# EAGLE library part HOLYIOT_18010 (library HOLYIOT-18010-VER1.0-0.8MM)
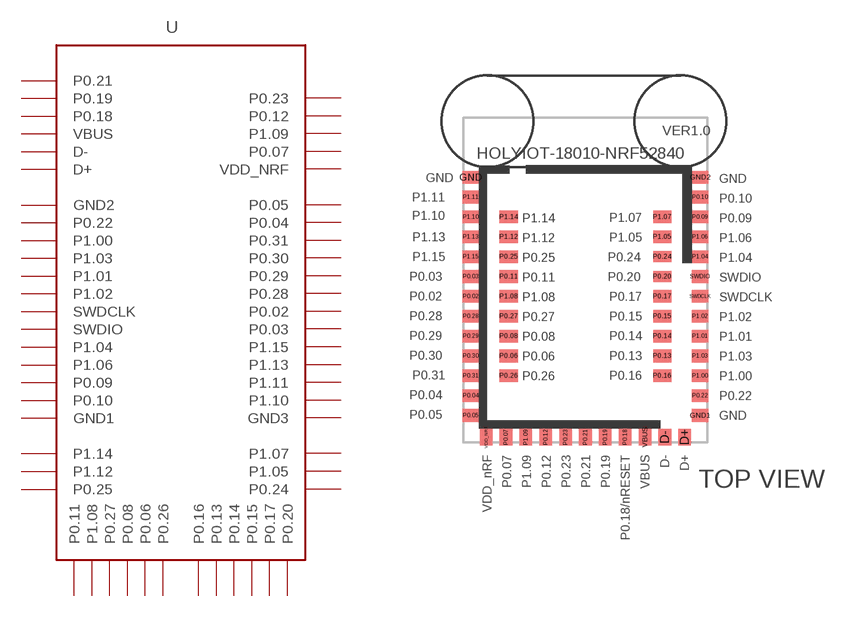
[diagram p0: symbol with the pads of PCBCOMPONENT_1; footprint PCBCOMPONENT_1]

Designator prefix -

## HOLYIOT_18010  [PCBCOMPONENT_1]
D+  D+
D-  D-
GND  GND1
GND1  GND2
GND2  GND3
P0.02  P0.02
P0.03  P0.03
P0.04  P0.04
P0.05  P0.05
P0.06  P0.06
P0.07  P0.07
P0.08  P0.08
P0.09  P0.09
P0.10  P0.10
P0.11  P0.11
P0.12  P0.12
P0.13  P0.13
P0.14  P0.14
P0.15  P0.15
P0.16  P0.16
P0.17  P0.17
P0.18  P0.18
P0.19  P0.19
P0.20  P0.20
P0.21  P0.21
P0.22  P0.22
P0.23  P0.23
P0.24  P0.24
P0.25  P0.25
P0.26  P0.26
P0.27  P0.27
P0.28  P0.28
P0.29  P0.29
P0.30  P0.30
P0.31  P0.31
P1.00  P1.00
P1.01  P1.01
P1.02  P1.02
P1.03  P1.03
P1.04  P1.04
P1.05  P1.05
P1.06  P1.06
P1.07  P1.07
P1.08  P1.08
P1.09  P1.09
P1.10  P1.10
P1.11  P1.11
P1.12  P1.12
P1.13  P1.13
P1.14  P1.14
P1.15  P1.15
SWDCLK  SWDCLK
SWDIO  SWDIO
VBUS  VBUS
VDD_NRF  VDD_NRF

## Footprint PCBCOMPONENT_1 (pad centres in mm)
smd 0.7 x 0.9: D+ 40.127,0.284; D- 39.027,0.284; P0.07 30.227,0.284; P0.12 32.427,0.284; P0.18 36.827,0.284; P0.19 35.727,0.284; P0.21 34.627,0.284; P0.23 33.527,0.284; P1.09 31.327,0.284; VBUS 37.927,0.284; VDD_NRF 29.127,0.284
smd 0.9 x 0.7: GND 28.277,14.684; GND1 40.977,1.484; GND2 40.977,14.684; P0.02 28.277,8.084; P0.03 28.277,9.184; P0.04 28.277,2.584; P0.05 28.277,1.484; P0.09 40.977,12.484; P0.10 40.977,13.584; P0.22 40.977,2.584; P0.28 28.277,6.984; P0.29 28.277,5.884; P0.30 28.277,4.784; P0.31 28.277,3.684; P1.00 40.977,3.684; P1.01 40.977,5.884; P1.02 40.977,6.984; P1.03 40.977,4.784; P1.04 40.977,10.284; P1.06 40.977,11.384; P1.10 28.277,12.484; P1.11 28.277,13.584; P1.13 28.277,11.384; P1.15 28.277,10.284; SWDCLK 40.977,8.084; SWDIO 40.977,9.184
smd 1 x 0.7: P0.06 30.377,4.784; P0.08 30.377,5.884; P0.11 30.377,9.184; P0.13 38.877,4.784; P0.14 38.877,5.884; P0.15 38.877,6.984; P0.16 38.877,3.684; P0.17 38.877,8.084; P0.25 30.377,10.284; P0.26 30.377,3.684; P0.27 30.377,6.984; P1.05 38.877,11.384; P1.07 38.877,12.484; P1.08 30.377,8.084; P1.12 30.377,11.384; P1.14 30.377,12.484
smd 1 x 0.6: P0.20 38.877,9.184; P0.24 38.877,10.284